# Altium footprint library ledsayici.PcbLib: 4 footprints
Each footprint in its own frame and in the unit in brackets; x right, y up, seen from the top. Pads: shape width x height; smd on the part's side, far side on the other; paste and mask are expansions set on the pad; w line width, h text height; cw(c..) or ccw(c..) is an arc to the next point about the centre after c.
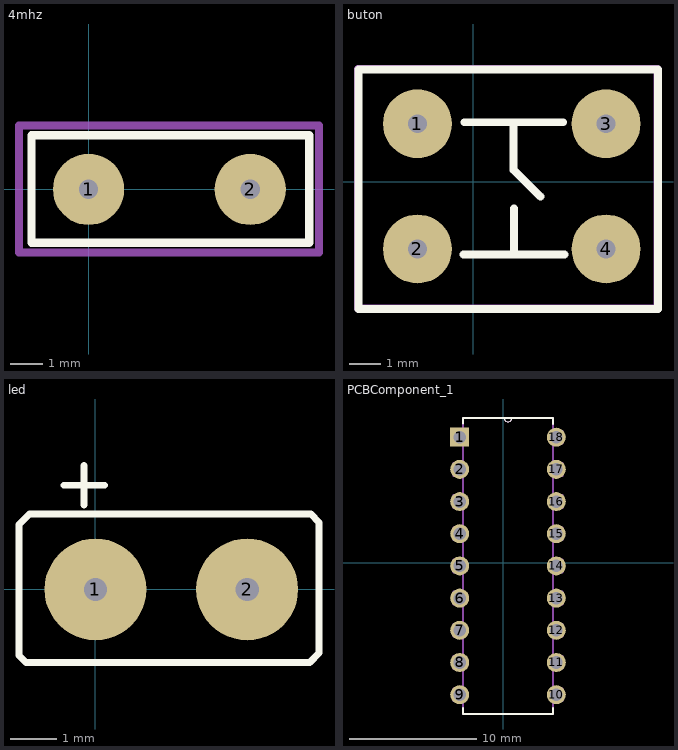
[diagram p0: the footprints below, top view; thin cyan lines are the x and y axes]

## 4mhz [mm]
pads (2):
  round 2.2 hole 0.6: 1(0,0) 2(5,0)
Top Overlay:
  lines w0.254: -1.764,-1.65 -1.764,1.675 6.825,1.675 6.825,-1.65 -1.764,-1.65
Mechanical 13:
  lines w0.254: -2.15,-1.95 7.125,-1.95 7.125,1.975 -2.15,1.975 -2.15,-1.95

## buton [mm]
pads (4):
  round 2.2 hole 0.6: 1(-1.775,1.85) 2(-1.775,-2.15) 3(4.25,1.85) 4(4.25,-2.15)
Top Overlay:
  lines w0.254: -0.3,-2.325 2.925,-2.325 ; -0.275,1.9 2.875,1.9 ; 1.3,1.9 1.3,0.375 2.15,-0.475 ; 1.313,-2.325 1.313,-0.863 ; -3.664,-4.067 5.911,-4.067 5.911,3.583 -3.664,3.583 -3.664,-4.067
Mechanical 13:
  lines w0.254: -3.675,-4.05 5.9,-4.05 5.9,3.6 -3.675,3.6 -3.675,-4.05

## led [mm]
pads (2):
  round 2.2 hole 0.5: 1(0,0) 2(3.275,0)
Top Overlay:
  lines w0.15: -0.675,2.25 0.2,2.25 ; -0.25,1.825 -0.25,2.675 ; -1.65,-1.425 -1.5,-1.575 4.625,-1.575 4.825,-1.375 4.825,1.45 4.65,1.625 -1.425,1.625 -1.65,1.4 -1.65,-1.425

## PCBComponent_1 [mil]
pads (18):
  rect 59x59 hole 39: 1(-135,390)
  round 59 hole 39: 2(-135,290) 3(-135,190) 4(-135,90) 5(-135,-10) 6(-135,-110) 7(-135,-210) 8(-135,-310) 9(-135,-410) 10(165,-410) 11(165,-310) 12(165,-210) 13(165,-110) 14(165,-10) 15(165,90) 16(165,190) 17(165,290) 18(165,390)
Top Overlay:
  lines w0: 3,450 ccw(c15,450) 27,450
  lines w6: -125,-451 -125,-470 155,-470 155,-451 ; -125,433 -125,450 3,450 27,450 155,450 155,431
Mechanical 13:
  lines w0: 3,450 ccw(c15,450) 27,450
  lines w6: -155,-391 -154,-430 -125,-430 -125,-390 -155,-391 ; -155,-330 -125,-330 -125,-290 -155,-290 -155,-330 ; -155,-230 -125,-230 -125,-190 -155,-190 -155,-230 ; -155,-130 -125,-130 -125,-90 -155,-90 -155,-130 ; -155,-30 -125,-30 -125,10 -155,10 -155,-30 ; -155,70 -125,70 -125,110 -155,110 -155,70 ; -155,170 -125,170 -125,210 -155,210 -155,170 ; -155,270 -125,270 -125,310 -155,310 -155,270 ; -155,370 -125,370 -125,410 -155,410 -155,370 ; -125,-470 -125,450 3,450 27,450 155,450 155,-470 -125,-470 ; 155,-430 185,-429 185,-390 155,-390 155,-430 ; 155,-330 185,-329 184,-290 155,-290 155,-330 ; 155,-230 184,-230 184,-190 155,-190 155,-230 ; 155,-130 184,-130 184,-90 155,-90 155,-130 ; 155,-30 184,-30 184,10 155,10 155,-30 ; 155,70 184,70 184,110 155,110 155,70 ; 155,170 184,170 184,210 155,210 155,170 ; 155,270 184,270 184,310 155,310 155,270 ; 155,370 184,370 184,410 155,410 155,370